# Altium footprint library PcbLib.PcbLib: 10 footprints
Each footprint in its own frame and in the unit in brackets; x right, y up, seen from the top. Pads: shape width x height; smd on the part's side, far side on the other; paste and mask are expansions set on the pad; w line width, h text height; cw(c..) or ccw(c..) is an arc to the next point about the centre after c.
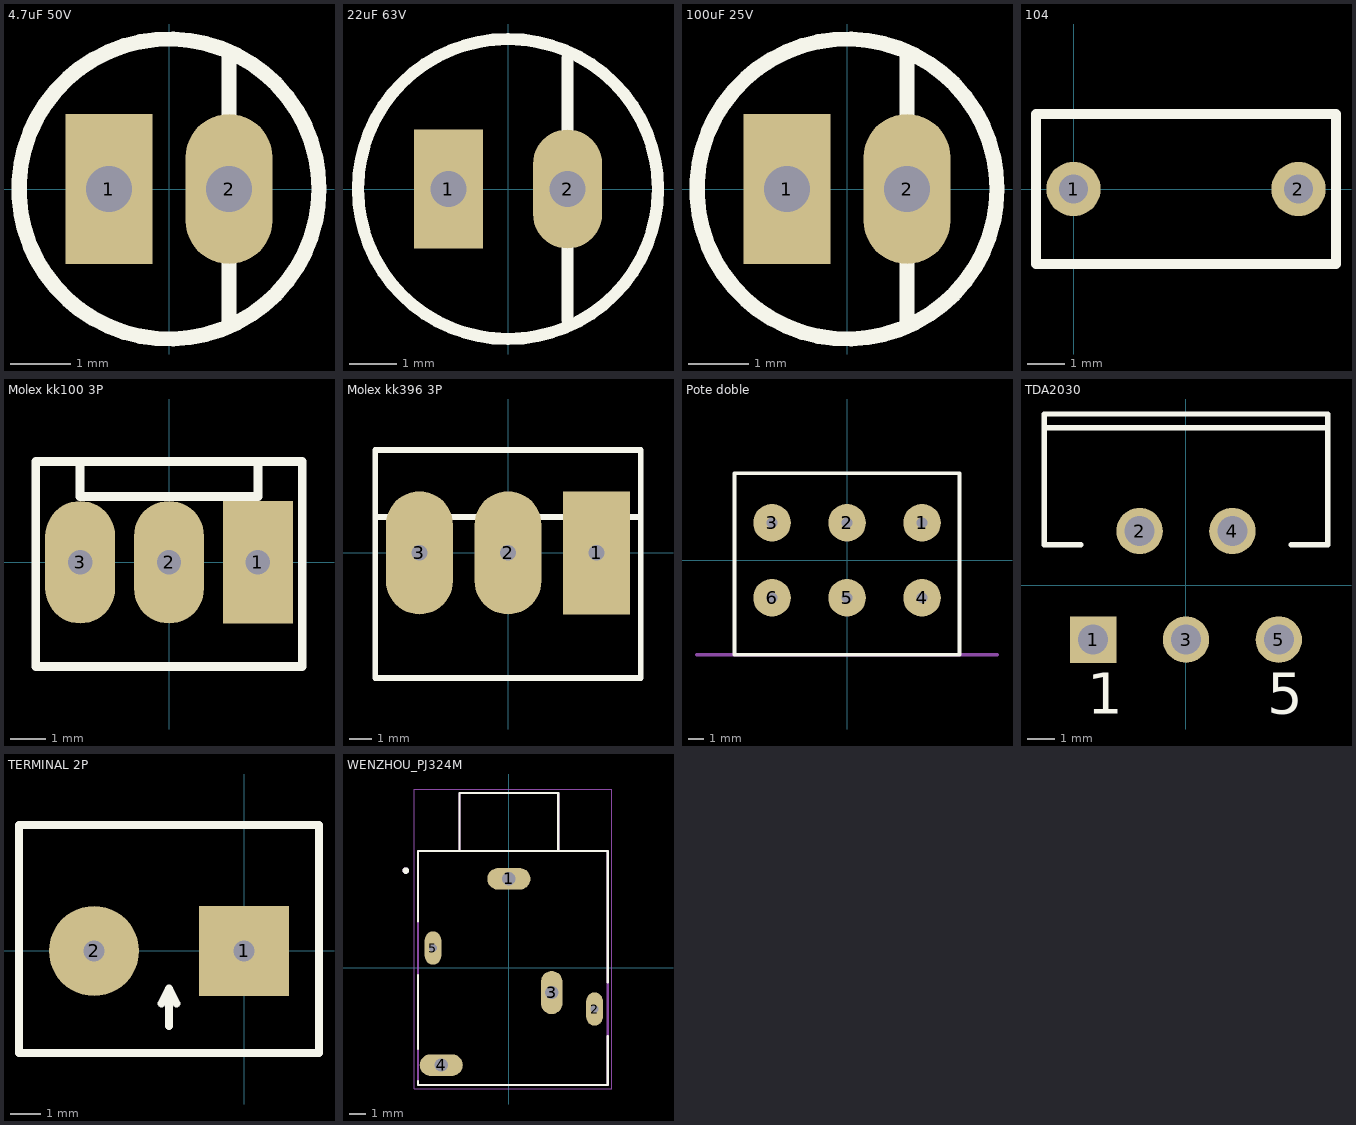
[diagram p0: the footprints below, top view; thin cyan lines are the x and y axes]

## 4.7uF 50V [mm]
pads (2):
  rect 1.45x2.5 hole 0.762: 1(-1,0)
  oval 1.45x2.5 hole 0.762: 2(1,0)
Top Overlay:
  circle w0.254: c0,0 r2.5
  lines w0.254: 1,-2.25 1,2.25
3D body: height 1.27, standoff 0, extent -2.5,-2.497 2.5,2.497

## 22uF 63V [mm]
pads (2):
  rect 1.45x2.5 hole 0.762: 1(-1.25,0)
  oval 1.45x2.5 hole 0.762: 2(1.25,0)
Top Overlay:
  circle w0.254: c0,0 r3.15
  lines w0.254: 1.25,-2.75 1.25,2.75
3D body: height 1.27, standoff 0, extent -3.15,-3.147 3.15,3.147

## 100uF 25V [mm]
pads (2):
  rect 1.45x2.5 hole 0.762: 1(-1,0)
  oval 1.45x2.5 hole 0.762: 2(1,0)
Top Overlay:
  circle w0.254: c0,0 r2.5
  lines w0.254: 1,-2.25 1,2.25
3D body: height 1.27, standoff 0, extent -2.5,-2.497 2.5,2.497

## 104 [mm]
pads (2):
  round 1.45 hole 0.762: 1(0,0) 2(6,0)
Top Overlay:
  lines w0.254: -1,-2 7,-2 7,2 -1,2 -1,-2

## Molex kk100 3P [mm]
pads (3):
  rect 2x3.5 hole 0.7: 1(2.54,0)
  oval 2x3.5 hole 0.7: 2(0,0) 3(-2.54,0)
Top Overlay:
  lines w0.254: -2.54,2.88 -2.54,1.88 2.54,1.88 2.54,2.88 ; -3.81,-2.98 3.81,-2.98 3.81,2.88 -3.81,2.88 -3.81,-2.98

## Molex kk396 3P [mm]
pads (3):
  rect 3x5.5 hole 0.7: 1(3.96,0)
  oval 3x5.5 hole 0.7: 2(0,0) 3(-3.96,0)
Top Overlay:
  lines w0.254: -5.94,1.6 5.94,1.6 ; -5.94,-5.6 5.94,-5.6 5.94,4.6 -5.94,4.6 -5.94,0 -5.94,-5.6

## Pote doble [mm]
pads (6):
  round 2.5 hole 0.7: 1(5,2.5) 2(0,2.5) 3(-5,2.5) 4(5,-2.5) 5(0,-2.5) 6(-5,-2.5)
Top Overlay:
  lines w0.254: -7.5,-6.3 7.5,-6.3 7.5,5.8 -7.5,5.8 -7.5,-6.3
Mechanical 13:
  lines w0.254: -10,-6.3 10,-6.3
3D body "RK16312-L15-Knurled.STEP": height 3.5, standoff -21.2, extent -8.9,-21.25 8.2,5.85

## TDA2030 [mm]
pads (5):
  rect 1.7x1.7 hole 1.1: 1(-3.4,-1.99)
  round 1.7 hole 1.1: 2(-1.7,1.99) 3(0,-1.99) 4(1.7,1.99) 5(3.4,-1.99)
Top Overlay:
  lines w0.2: -5.2,5.78 5.2,5.78 ; -3.854,1.48 -5.2,1.48 -5.2,6.28 5.2,6.28 5.2,1.48 3.854,1.48
  text "5" at 2.98,-4.715 h1.5
  text "1" at -3.62,-4.715 h1.5

## TERMINAL 2P [mm]
pads (2):
  rect 3x3 hole 0.7: 1(0,0)
  round 3 hole 0.7: 2(-5,0)
Top Overlay:
  lines w0.254: -2.75,-1.75 -2.5,-1.25 ; -2.5,-2.5 -2.5,-1.25 ; -2.25,-1.75 -2.5,-1.25 ; -7.5,-3.4 -7.5,4.2 2.5,4.2 2.5,-3.4 -7.5,-3.4

## WENZHOU_PJ324M [mm]
height 6.3
pads (5):
  oval 2.616x1.308 hole 0.8 square: 1(0,5.4) 4(-4.1,-5.9)
  oval 1.008x2.016 hole 0.5 square: 2(5.2,-2.5) 5(-4.6,1.2)
  oval 1.308x2.616 hole 0.8 square: 3(2.6,-1.5)
Top Overlay:
  circle w0.2: c-6.25,5.9 r0.1
  lines w0.127: -5.5,-6.874 -5.5,-7.1 6,-7.1 6,-4.128 ; -5.5,-4.926 -5.5,-0.428 ; -5.5,2.828 -5.5,7.1 -3,7.1 ; 6,-0.872 6,7.1 3,7.1 ; -3,7.1 3,7.1 ; -3,7.1 -3,10.6 3,10.6 3,7.1
Mechanical 13:
  circle w0.2: c-6.25,5.9 r0.1
  lines w0.127: -3,7.1 -5.5,7.1 -5.5,-7.1 6,-7.1 6,7.1 3,7.1 ; -3,7.1 3,7.1 ; -3,7.1 -3,10.6 3,10.6 3,7.1
Mechanical 15:
  lines w0.05: -5.75,-7.35 -5.75,10.85 6.25,10.85 6.25,-7.35 -5.75,-7.35
3D body "step_temp.STEP": height 6.3, standoff -2.5, extent -5.75,-7.1 5.75,10.6